# EAGLE library part TPS3700 (library scono)
TI TPS3700 Voltage Detection IC
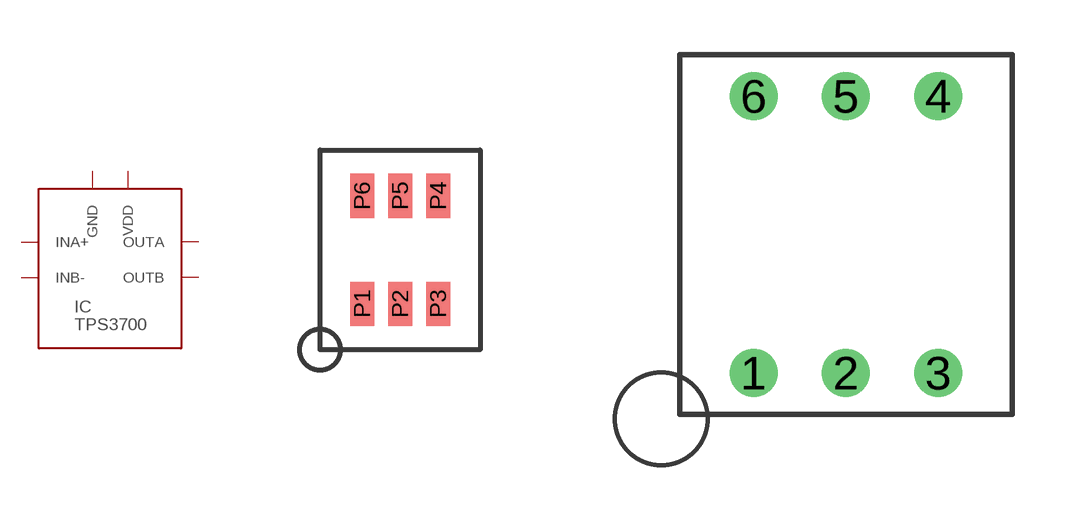
[diagram p12: symbol with the pads of SOT6; footprints SOT6, DIP_6]

Designator prefix IC

## TPS3700SMT  [SOT6]
P1  OUTA
P2  GND
P3  INA+
P4  INB-
P5  VDD
P6  OUTB

## TPS3700THRU_ADAPTER  [DIP_6]
1  OUTA
2  GND
3  INA+
4  INB-
5  VDD
6  OUTB

## Footprint SOT6 (pad centres in mm)
SOT6 Package
smd 0.6 x 1.1: P1 -0.95,-1.35; P2 0,-1.35; P3 0.95,-1.35; P4 0.95,1.35; P5 0,1.35; P6 -0.95,1.35

## Footprint DIP_6 (pad centres in mm)
DIP-6 PACKAGE
drill 0.813: 1 -2.54,-3.81; 2 0,-3.81; 3 2.54,-3.81; 4 2.54,3.81; 5 0,3.81; 6 -2.54,3.81